# EAGLE library part MAX17040 (library Custom_Library)
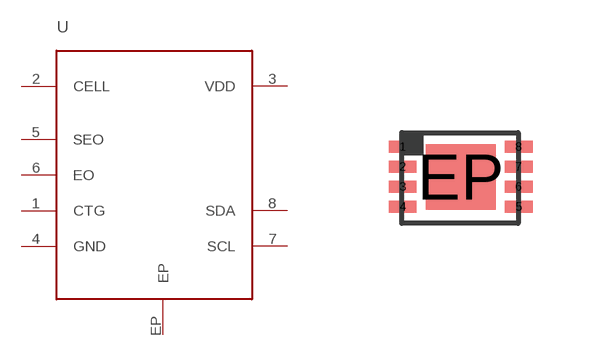
[diagram p35: symbol with the pads of TDFN-2X3; footprint TDFN-2X3]

Designator prefix U

## MAX17040  [TDFN-2X3]
1  CTG
2  CELL
3  VDD
4  GND
5  SEO
6  EO
7  SCL
8  SDA
EP  EP

## Footprint TDFN-2X3 (pad centres in mm)
smd 0.7 x 0.3: 1 -1.45,0.75; 2 -1.45,0.25; 3 -1.45,-0.25; 4 -1.45,-0.75; 5 1.45,-0.75; 6 1.45,-0.25; 7 1.45,0.25; 8 1.45,0.75
smd 1.75 x 1.63: EP 0,0